# Altium schematic symbol library NCV1117.Schlib: 1 symbol
Pins are listed as number, name and electrical type; pins without a type are passive.

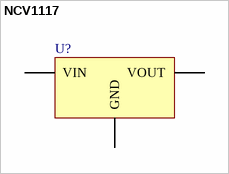
[diagram p0: symbol NCV1117]

## NCV1117
designator U?
pins: 1 GND, 2 VOUT, 3 VIN